# Altium footprint library Diodes.PcbLib: 38 footprints (part 3 of 3)
Each footprint in its own frame and in the unit in brackets; x right, y up, seen from the top. Pads: shape width x height; smd on the part's side, far side on the other; paste and mask are expansions set on the pad; w line width, h text height; cw(c..) or ccw(c..) is an arc to the next point about the centre after c.
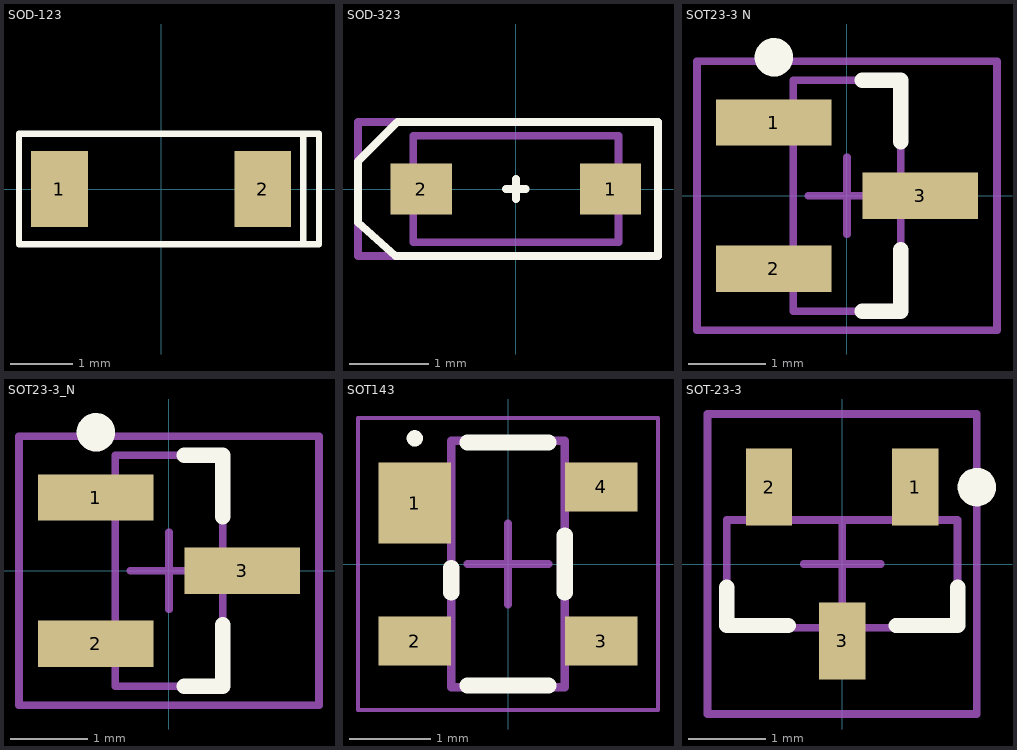
[diagram p2: the footprints below, top view; thin cyan lines are the x and y axes]

## SOD-123 [mm]
pads (2):
  rect 0.91x1.22 smd: 1(-1.635,0) 2(1.635,0)
Top Overlay:
  lines w0.102: 2.286,-0.889 2.286,0.889 ; -2.286,-0.889 -2.286,0.889 2.54,0.889 2.54,-0.889 -0.508,-0.889 -2.286,-0.889
3D body "User Library-SOD-123_DiodesInc.STEP": height 1.47, standoff 0.02, extent -1.925,-0.889 1.925,0.811

## SOD-323 [mm]
pads (2):
  rect 0.775x0.65 smd: 1(1.2,0) 2(-1.2,0)
Top Overlay:
  lines w0.1: -1.525,-0.85 -2,-0.425 -2,0.35 -1.512,0.838 ; -1.5,-0.85 1.8,-0.85 1.8,0.85 -1.5,0.85 ; -0.125,0 0.125,0 ; 0,-0.125 0,0.125
Mechanical 1:
  lines w0.1: -1.3,-0.675 -1.3,0.675 1.3,0.675 1.3,-0.675 -1.3,-0.675
Mechanical 15:
  lines w0.1: -2,-0.85 -2,0.85 1.8,0.85 1.8,-0.85 -2,-0.85
3D body "User Library-SOD323-1.STEP": height 1.1, standoff 0, extent -1.3,-0.675 1.3,0.675

## SOT23-3 N [mm] "SOT23, 3-Leads, Body 2.9x1.3mm, Pitch 0.95mm, Lead Span 2.5mm, IPC Medium Density"
height 1.1
pads (3):
  rect 1.5x0.6 smd: 1(-0.95,0.95) 2(-0.95,-0.95) 3(0.95,0)
Top Overlay:
  circle w0.25: c-0.95,1.8 r0.125
  lines w0.2: 0.2,-1.5 0.7,-1.5 0.7,-0.7 ; 0.2,1.5 0.7,1.5 0.7,0.7
Mechanical 13:
  lines w0.1: -0.7,-1.5 -0.7,1.5 0.7,1.5 0.7,-1.5 -0.7,-1.5
Mechanical 15:
  lines w0.1: -0.5,0 0.5,0 ; 0,-0.5 0,0.5 ; -1.95,-1.75 -1.95,1.75 1.95,1.75 1.95,-1.75 -1.95,-1.75
Mechanical 29:
  text ".Designator" at 0,0 h1
3D body "SOT23-3.STEP": height 1.3, standoff 0, extent -1.4,-1.45 1.4,1.45

## SOT23-3_N [mm] "SOT23, 3-Leads, Body 2.9x1.3mm, Pitch 0.95mm, Lead Span 2.5mm, IPC Medium Density"
height 1.1
pads (3):
  rect 1.5x0.6 smd: 1(-0.95,0.95) 2(-0.95,-0.95) 3(0.95,0)
Top Overlay:
  circle w0.25: c-0.95,1.8 r0.125
  lines w0.2: 0.2,-1.5 0.7,-1.5 0.7,-0.7 ; 0.2,1.5 0.7,1.5 0.7,0.7
Mechanical 13:
  lines w0.1: -0.7,-1.5 -0.7,1.5 0.7,1.5 0.7,-1.5 -0.7,-1.5
Mechanical 15:
  lines w0.1: -0.5,0 0.5,0 ; 0,-0.5 0,0.5 ; -1.95,-1.75 -1.95,1.75 1.95,1.75 1.95,-1.75 -1.95,-1.75
Mechanical 29:
  text ".Designator" at -2.159,-1.143 h2
3D body "User Library-3-lead sot23-3.step": height 1.03, standoff 0.01, extent -1.377,-1.46 1.099,1.46

## SOT143 [mm] "SOT143, 4-Leads, Body 2,92x2,30mm, Pitch 1,90mm, IPC Medium Density"
height 1.1
pads (4):
  rect 0.9x1 smd: 1(-1.15,0.75)
  rect 0.9x0.6 smd: 2(-1.15,-0.95) 3(1.15,-0.95) 4(1.15,0.95)
Top Overlay:
  circle w0.1: c-1.15,1.55 r0.05
  lines w0.2: -0.7,-0.35 -0.7,-0.05 ; -0.5,-1.5 0.5,-1.5 ; -0.5,1.5 0.5,1.5 ; 0.7,-0.35 0.7,0.35
Mechanical 13:
  lines w0.1: -0.7,-1.52 -0.7,1.52 0.7,1.52 0.7,-1.52 -0.7,-1.52
Mechanical 15:
  lines w0.05: -1.85,-1.8 -1.85,1.8 1.85,1.8 1.85,-1.8 -1.85,-1.8
  lines w0.1: -0.5,0 0.5,0 ; 0,-0.5 0,0.5
3D body "SOT190P230X110-4N.step": height 1.1, standoff 0, extent -1.15,-1.52 1.15,1.52

## SOT-23-3 [mm]
height 1
pads (3):
  rect 0.6x1 smd: 1(0.95,1) 2(-0.95,1) 3(0,-1)
Top Overlay:
  circle w0.25: c1.75,1 r0.125
  lines w0.2: -1.5,-0.3 -1.5,-0.8 -0.7,-0.8 ; 0.7,-0.8 1.5,-0.8 1.5,-0.3
Mechanical 13:
  lines w0.1: -1.5,-0.827 -1.5,0.573 1.5,0.573 1.5,-0.827 -1.5,-0.827
Mechanical 15:
  lines w0.1: -0.5,0 0.5,0 ; 0,-0.5 0,0.5 ; -1.75,-1.95 -1.75,1.95 1.75,1.95 1.75,-1.95 -1.75,-1.95
3D body "User Library-3-lead sot23-3.step": height 1.03, standoff 0.01, extent -1.46,-1.226 1.46,1.25